# Altium footprint library SO_TSSOP_SOT_SOP.PcbLib: 33 footprints (part 1 of 3)
Each footprint in its own frame and in the unit in brackets; x right, y up, seen from the top. Pads: shape width x height; smd on the part's side, far side on the other; paste and mask are expansions set on the pad; w line width, h text height; cw(c..) or ccw(c..) is an arc to the next point about the centre after c.
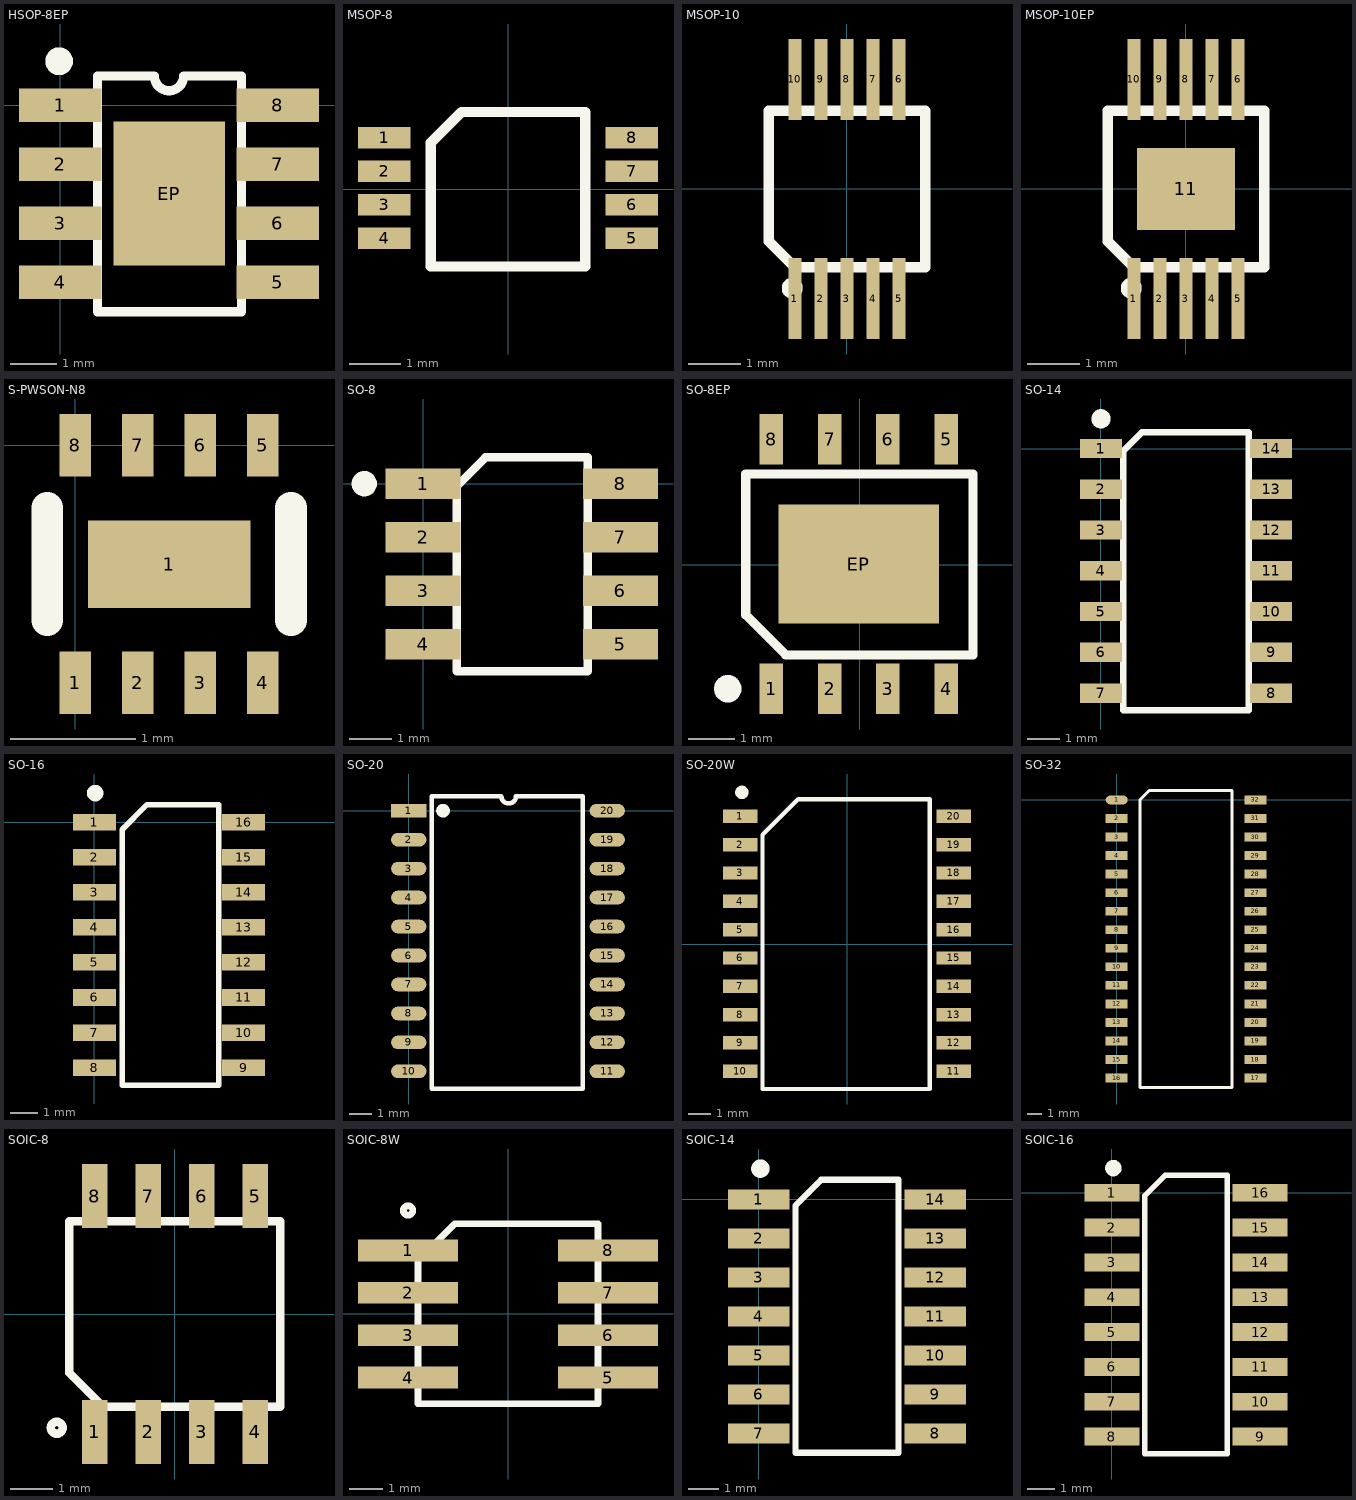
[diagram p0: the footprints below, top view; thin cyan lines are the x and y axes]

## HSOP-8EP [mm]
pads (9):
  rect 1.78x0.72 smd: 1(0,0) 2(0,-1.27) 3(0,-2.54) 4(0,-3.81) 5(4.68,-3.81) 6(4.68,-2.54) 7(4.68,-1.27) 8(4.68,0)
  rect 2.4x3.1 smd: EP(2.35,-1.9)
Top Overlay:
  circle w0.3: c-0.025,0.95 r0.15
  lines w0.2: 0.8,-4.445 0.8,0.635 2.023,0.635 ccw(c2.34,0.635) 2.658,0.635 3.9,0.635 3.9,-4.445 0.8,-4.445
3D body "SO-8.step": height 1.7, standoff 0, extent -0.65,-4.35 5.35,0.55

## MSOP-8 [mm]
pads (8):
  rect 1.02x0.41 smd: 1(-2.4,1) 2(-2.4,0.35) 3(-2.4,-0.3) 4(-2.4,-0.95) 5(2.4,-0.95) 6(2.4,-0.3) 7(2.4,0.35) 8(2.4,1)
Top Overlay:
  lines w0.2: -1.5,-1.5 -1.5,0.9 -0.9,1.5 1.5,1.5 1.5,-1.5 -1.5,-1.5
3D body "User Library-msop-8.STEP": height 1.15, standoff 0, extent -2.45,-1.5 2.45,1.5

## MSOP-10 [mm]
pads (10):
  rect 0.25x1.55 smd: 1(-1,-2.1) 2(-0.5,-2.1) 3(0,-2.1) 4(0.5,-2.1) 5(1,-2.1) 6(1,2.1) 7(0.5,2.1) 8(0,2.1) 9(-0.5,2.1) 10(-1,2.1)
Top Overlay:
  circle w0.2: c-1.05,-1.9 r0.1
  lines w0.2: -1.5,-1 -1,-1.5 1.5,-1.5 1.5,1.5 -1.5,1.5 -1.5,-1
3D body "User Library-msop-10.step": height 1.15, standoff 0, extent -1.5,-2.45 1.5,2.45

## MSOP-10EP [mm]
pads (11):
  rect 0.25x1.55 smd: 1(-1,-2.1) 2(-0.5,-2.1) 3(0,-2.1) 4(0.5,-2.1) 5(1,-2.1) 6(1,2.1) 7(0.5,2.1) 8(0,2.1) 9(-0.5,2.1) 10(-1,2.1)
  rect 1.88x1.57 smd: 11(0,0)
Top Overlay:
  circle w0.2: c-1.05,-1.9 r0.1
  lines w0.2: -1.5,-1 -1,-1.5 1.5,-1.5 1.5,1.5 -1.5,1.5 -1.5,-1
3D body "User Library-msop-10.step": height 1.15, standoff 0, extent -1.5,-2.45 1.5,2.45

## S-PWSON-N8 [mm]
pads (9):
  rect 0.25x0.5 smd: 1(0,-1.9) 2(0.5,-1.9) 3(1,-1.9) 4(1.5,-1.9) 5(1.5,0) 6(1,0) 7(0.5,0) 8(0,0)
  rect 1.3x0.7 smd: 1(0.75,-0.95)
Top Overlay:
  lines w0.254: -0.225,-1.4 -0.225,-0.5 ; 1.725,-1.4 1.725,-0.5

## SO-8 [mm]
pads (8):
  rect 1.78x0.72 smd: 1(0,0) 2(0,-1.27) 3(0,-2.54) 4(0,-3.81) 5(4.68,-3.81) 6(4.68,-2.54) 7(4.68,-1.27) 8(4.68,0)
Top Overlay:
  circle w0.3: c-1.397,0 r0.15
  lines w0.2: 0.8,-4.445 3.9,-4.445 3.9,0.625 1.475,0.625 0.8,-0.05 0.8,-4.445
3D body "SO-8.step": height 1.7, standoff 0, extent -0.65,-4.35 5.35,0.55

## SO-8EP [mm]
pads (9):
  rect 0.51x1.1 smd: 1(-1.925,-2.7) 2(-0.655,-2.7) 3(0.615,-2.7) 4(1.885,-2.7) 5(1.885,2.734) 6(0.615,2.734) 7(-0.655,2.734) 8(-1.925,2.734)
  rect 3.5x2.6 smd: EP(-0.02,0.017)
Top Overlay:
  circle w0.3: c-2.872,-2.7 r0.15
  lines w0.2: -2.483,-1.092 -2.483,1.974 2.47,1.974 2.47,-1.963 -1.612,-1.963 -2.483,-1.092
3D body "SO-8.step": height 1.7, standoff 0, extent -2.45,-2.975 2.45,3.025

## SO-14 [mm]
pads (14):
  rect 1.3x0.6 smd: 1(0,0) 2(0,-1.27) 3(0,-2.54) 4(0,-3.81) 5(0,-5.08) 6(0,-6.35) 7(0,-7.62) 8(5.3,-7.62) 9(5.3,-6.35) 10(5.3,-5.08) 11(5.3,-3.81) 12(5.3,-2.54) 13(5.3,-1.27) 14(5.3,0)
Top Overlay:
  circle w0.3: c0.003,0.925 r0.15
  lines w0.2: 0.7,-8.15 0.7,-0.075 1.275,0.5 4.6,0.5 4.6,-8.15 0.7,-8.15
3D body "User Library-so14-1.STEP": height 1.7, standoff 0, extent -0.375,-8.225 5.625,0.575

## SO-16 [mm]
pads (16):
  rect 1.55x0.6 smd: 1(0,0) 2(0,-1.27) 3(0,-2.54) 4(0,-3.81) 5(0,-5.08) 6(0,-6.35) 7(0,-7.62) 8(0,-8.89) 9(5.4,-8.89) 10(5.4,-7.62) 11(5.4,-6.35) 12(5.4,-5.08) 13(5.4,-3.81) 14(5.4,-2.54) 15(5.4,-1.27) 16(5.4,0)
Top Overlay:
  circle w0.3: c0.025,1.05 r0.15
  lines w0.2: 2.975,0.635 1.91,0.635 1,-0.275 1,-9.525 4.5,-9.525 4.5,0.635 3.017,0.635
3D body "User Library-so16.STEP": height 1.7, standoff 0, extent -0.325,-9.55 5.675,0.65

## SO-20 [mm]
pads (20):
  rect 1.55x0.6 smd: 1(0,0)
  oval 1.55x0.6 smd: 2(0,-1.27) 3(0,-2.54) 4(0,-3.81) 5(0,-5.08) 6(0,-6.35) 7(0,-7.62) 8(0,-8.89) 9(0,-10.16) 10(0,-11.43) 11(8.702,-11.43) 12(8.702,-10.16) 13(8.702,-8.89) 14(8.702,-7.62) 15(8.702,-6.35) 16(8.702,-5.08) 17(8.702,-3.81) 18(8.702,-2.54) 19(8.702,-1.27) 20(8.702,0)
Top Overlay:
  circle w0.3: c1.5,0 r0.15
  lines w0.2: 1,-12.192 1,0.635 4.064,0.635 ccw(c4.381,0.635) 4.699,0.635 7.62,0.635 7.62,-12.192 1,-12.192

## SO-20W [mm]
pads (20):
  rect 1.55x0.6 smd: 1(-4.8,5.725) 2(-4.8,4.455) 3(-4.8,3.185) 4(-4.8,1.915) 5(-4.8,0.645) 6(-4.8,-0.625) 7(-4.8,-1.895) 8(-4.8,-3.165) 9(-4.8,-4.435) 10(-4.8,-5.705) 11(4.777,-5.705) 12(4.777,-4.435) 13(4.777,-3.165) 14(4.777,-1.895) 15(4.777,-0.625) 16(4.777,0.645) 17(4.777,1.915) 18(4.777,3.185) 19(4.777,4.455) 20(4.777,5.725)
Top Overlay:
  circle w0.3: c-4.725,6.8 r0.15
  lines w0.2: -3.8,-6.5 3.695,-6.5 3.695,6.5 -2.2,6.5 -3.8,4.9 -3.8,-6.5
3D body "User Library-SO-20 (Wide).step": height 2.7, standoff 0, extent -5.15,-6.4 5.15,6.4

## SO-32 [mm]
pads (32):
  oval 1.5x0.6 smd: 1(0,0)
  rect 1.5x0.6 smd: 2(0,-1.27) 3(0,-2.54) 4(0,-3.81) 5(0,-5.08) 6(0,-6.35) 7(0,-7.62) 8(0,-8.89) 9(0,-10.16) 10(0,-11.43) 11(0,-12.7) 12(0,-13.97) 13(0,-15.24) 14(0,-16.51) 15(0,-17.78) 16(0,-19.05) 17(9.5,-19.05) 18(9.5,-17.78) 19(9.5,-16.51) 20(9.5,-15.24) 21(9.5,-13.97) 22(9.5,-12.7) 23(9.5,-11.43) 24(9.5,-10.16) 25(9.5,-8.89) 26(9.5,-7.62) 27(9.5,-6.35) 28(9.5,-5.08) 29(9.5,-3.81) 30(9.5,-2.54) 31(9.5,-1.27) 32(9.5,0)
Top Overlay:
  lines w0.2: 1.585,-19.685 1.585,0 2.22,0.635 7.915,0.635 7.915,-19.685 1.585,-19.685

## SOIC-8 [mm]
pads (8):
  rect 0.6x1.52 smd: 1(-1.9,-2.8) 2(-0.63,-2.8) 3(0.64,-2.8) 4(1.91,-2.8) 5(1.91,2.8) 6(0.64,2.8) 7(-0.63,2.8) 8(-1.9,2.8)
Top Overlay:
  circle w0.2: c-2.8,-2.7 r0.141
  lines w0.2: -2.5,-1.4 -1.7,-2.2 2.5,-2.2 2.5,2.2 -2.5,2.2 -2.5,-1.4
3D body "User Library-so8-3.step": height 1.7, standoff 0, extent -2.45,-3 2.45,3

## SOIC-8W [mm] "Wide"
pads (8):
  rect 3x0.65 smd: 1(-3,1.9) 2(-3,0.63) 3(-3,-0.64) 4(-3,-1.91) 5(3,-1.91) 6(3,-0.64) 7(3,0.63) 8(3,1.9)
Top Overlay:
  circle w0.2: c-3,3.1 r0.141
  lines w0.2: -2.7,-2.7 2.7,-2.7 2.7,2.7 -1.6,2.7 -2.7,1.6 -2.7,-2.7
3D body "User Library-SOIC8_Wide_5mmx5mm.STEP": height 1.75, standoff -0.01, extent -4.052,-2.73 4.05,2.73

## SOIC-14 [mm]
pads (14):
  rect 2x0.65 smd: 1(0,0) 2(0,-1.27) 3(0,-2.54) 4(0,-3.81) 5(0,-5.08) 6(0,-6.35) 7(0,-7.62) 8(5.75,-7.62) 9(5.75,-6.35) 10(5.75,-5.08) 11(5.75,-3.81) 12(5.75,-2.54) 13(5.75,-1.27) 14(5.75,0)
Top Overlay:
  circle w0.3: c0.053,1 r0.15
  lines w0.2: 1.2,-8.255 4.55,-8.255 4.55,0.635 2.032,0.635 1.2,-0.197 1.2,-8.255
3D body "User Library-SOIC-14.STEP": height 1.75, standoff 0, extent -0.125,-8.175 5.875,0.575

## SOIC-16 [mm] "SOIC16"
height 1.75
pads (16):
  rect 2x0.65 smd: 1(0,0) 2(0,-1.27) 3(0,-2.54) 4(0,-3.81) 5(0,-5.08) 6(0,-6.35) 7(0,-7.62) 8(0,-8.89) 9(5.4,-8.89) 10(5.4,-7.62) 11(5.4,-6.35) 12(5.4,-5.08) 13(5.4,-3.81) 14(5.4,-2.54) 15(5.4,-1.27) 16(5.4,0)
Top Overlay:
  circle w0.3: c0.053,0.9 r0.15
  lines w0.2: 1.2,-9.525 4.2,-9.525 4.2,0.635 1.935,0.635 1.2,-0.1 1.2,-9.525
3D body "User Library-SOIC-16-1.STEP": height 1.4, standoff 0, extent -0.375,-9.375 5.625,0.525